# EAGLE library part YH55-04 (library con-RJ-YH55)
RJ11-RJ12 6P6C no shield Source: YH55-04.pdf At: http://www.rcscomponents.kiev.ua/datasheets/YH-55-04.pdf
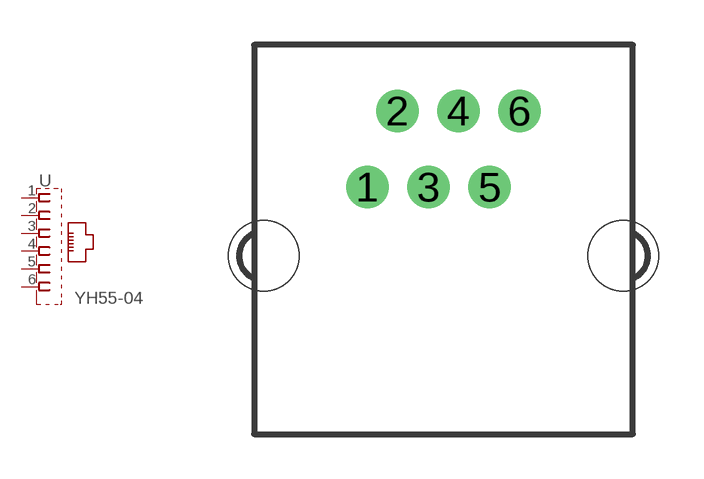
[diagram p3: symbol with the pads of YH55-04; footprint YH55-04]

Designator prefix -

## YH55-04  [YH55-04]
1  1  pas
2  2  pas
3  3  pas
4  4  pas
5  5  pas
6  6  pas

## Footprint YH55-04 (pad centres in mm)
drill 0.9 pad 1.422: 1 -2.54,2.3; 2 -1.54,4.84; 3 -0.5,2.3; 4 0.5,4.84; 5 1.54,2.3; 6 2.54,4.84
hole 2.36 at -6,0
hole 2.36 at 6,0